# Altium integrated library LPEDT_Parts.IntLib: 69 symbols (part 1 of 3)
Pins are listed as number, name and electrical type; pins without a type are passive.

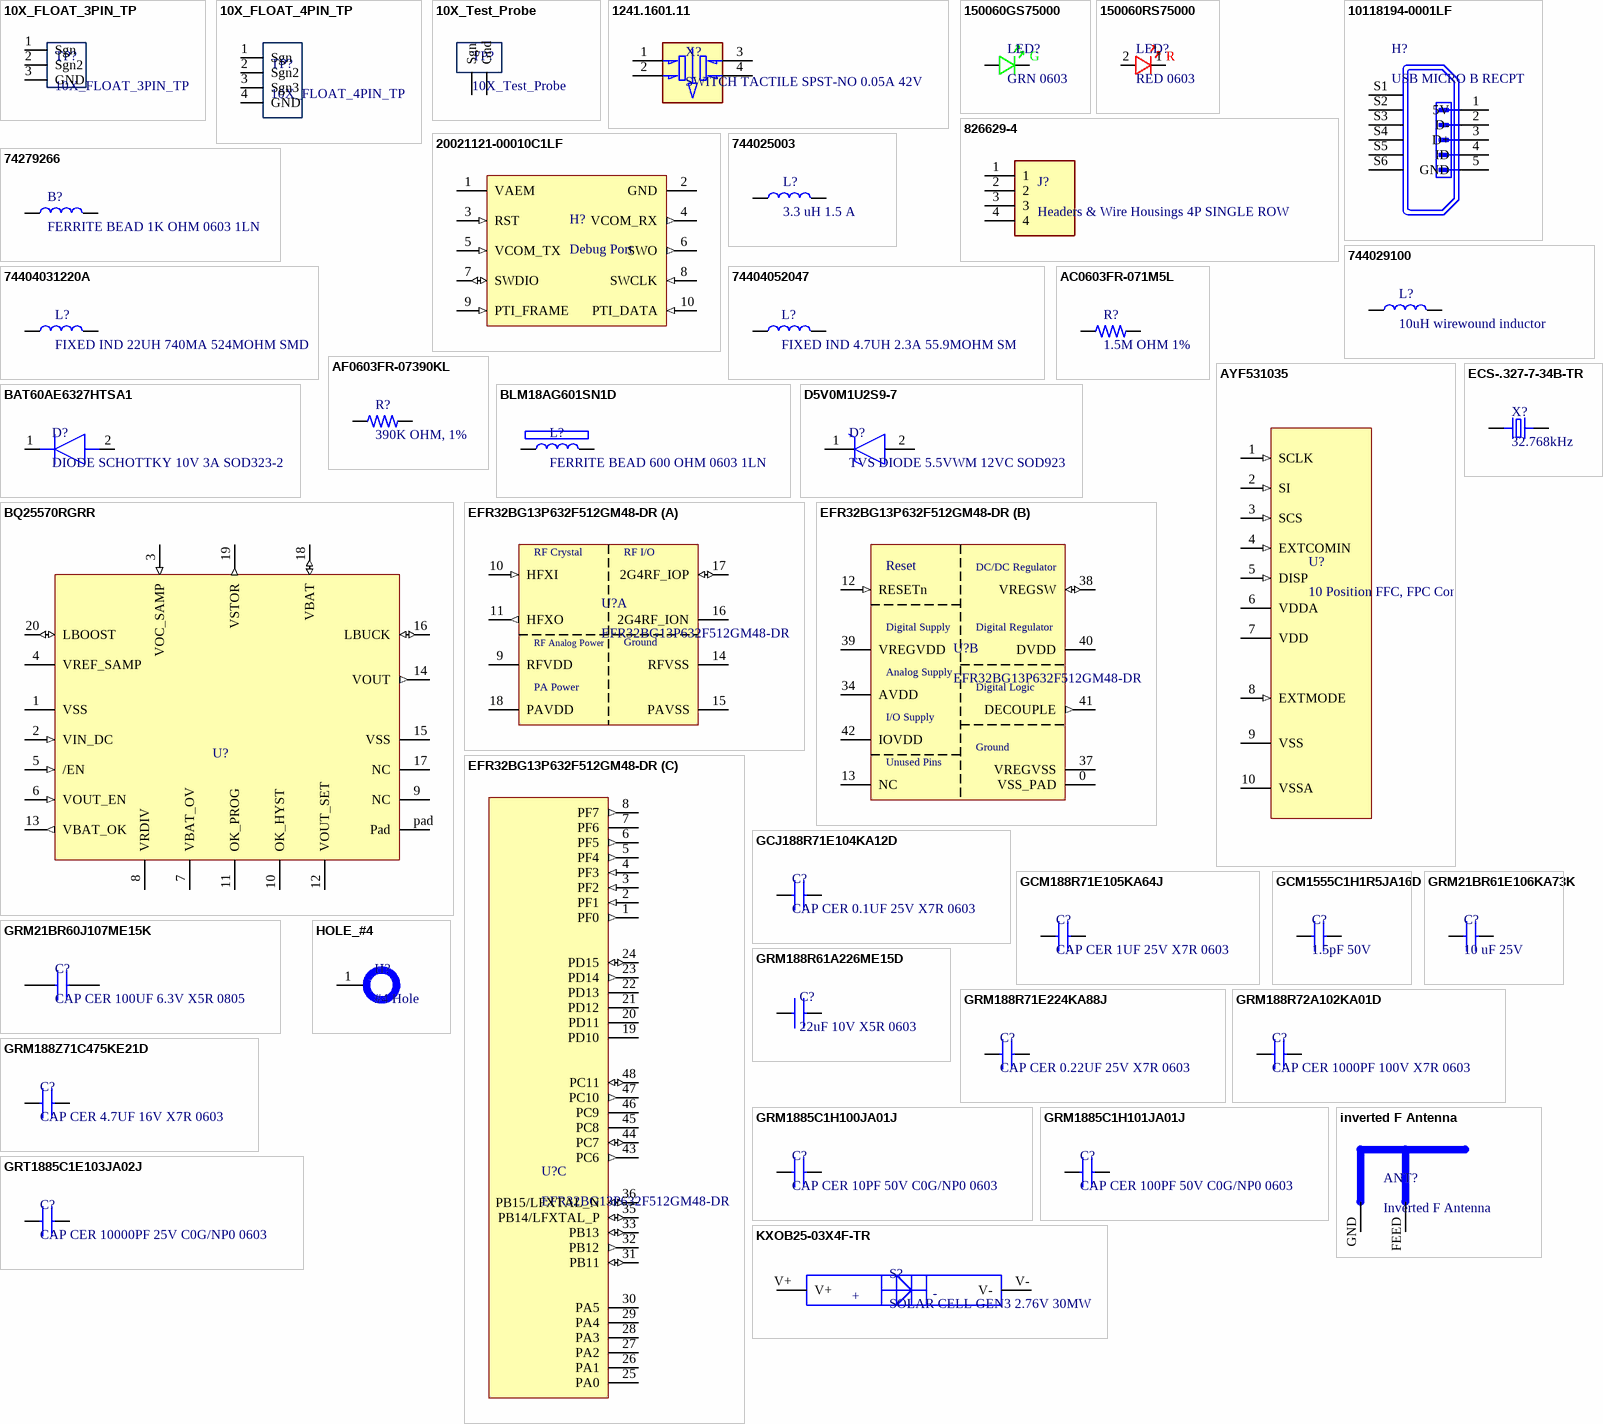
[diagram p0: symbols 10X_FLOAT_3PIN_TP to KXOB25-03X4F-TR]

## 10X_FLOAT_3PIN_TP
designator TP?
footprint TP10x_Floating_3PIN (Small Probs footprint)
pins: 1 Sgn, 2 Sgn2, 3 GND

## 10X_FLOAT_4PIN_TP
designator TP?
footprint TP10x_Floating_4PIN (Small Probs footprint)
pins: 1 Sgn, 2 Sgn2, 3 Sgn3, 4 GND

## 10X_Test_Probe
designator TP?
footprint TP10x_Probe (Small Probs footprint)
pins: 1 Sgn, 2 Gnd

## 1241.1601.11
designator X?, comment SWITCH TACTILE SPST-NO 0.05A 42V
Switch Tactile N.O. SPST Round Button J-Lead 0.05A 30VAC 42VDC 0.12VA >1000000Cycles 1.6N SMD Box; Manufacturer: Schurter; Manufacturer Part Number: 1241.1601.11; Actuator Material: Polyphenylene; Operating Force: 180gf; Max Current Rating: 50mA; Voltage Rating (AC): 30V; Illumination Type: Non-Illuminated,Illuminated; Switch Travel: 0.35mm; Switch Function: Off-Mom; Actuator Type: Standard; Actuator Length: 1.3mm; Ratings: IP40; Supplier 1: Rs; RoHS: Yes; Category: Tactile Switches; Stock 1: 104; Pricing 1: 1=3.18000, 10=3.01000, 25=2.82000 (GBP); Mounting Technology: Surface Mount; Case/Package: SMD/SMT; Contact Material: Gold; Weight: 0.024692oz; Mechanical Life: 1000000Cycles; Min Operating Temperature: -40°C; Max Operating Temperature: 85°C; Package Quantity: 100; Packaging: Bulk; Throw Configuration: SPST; Voltage Rating (DC): 42V; Contact Current Rating: 50mA; Current Rating: 50mA; Max Voltage Rating (DC): 42V; Max Voltage Rating (AC): 30V; Termination: J-Lead; Orientation: Straight; Series: SMS; Length: 11.4mm; Depth: 11.8mm; Reach SVHC Compliant: Yes; RoHS Compliant: Yes; ComponentLink1URL: https://datasheet.ciiva.com/25603/0900766b81148c24-25603899.pdf?src-supplier=Rs; ComponentLink1Description: https://datasheet.ciiva.com/25603/0900766b81148c24-25603899.pdf?src-supplier=Rs
footprint 1241160111
pins: 1 NC1, 2 COM1, 3 NC2, 4 COM2

## 150060GS75000
designator LED?, comment GRN 0603
LED, 0603, GREEN, 430MCD, 520NM; Manufacturer: Wurth Electronics; Manufacturer Part Number: 150060GS75000; Dynamic Catalog: 0603 Rectangle with Flat Top Chip LEDs; 3D Model: SMCW_0603.igs / SMCW_0603.stp / SMCW_0603.wrl; Wavelength - Peak: 515nm; Voltage - Forward (Vf) (Typ): 3.2V; Current - Test: 20mA; Viewing Angle: 140°; Lens Type: Clear; Lens Style/Size: Rectangle with Flat Top, 1.1mm x 0.7mm; Other Names: 732-4971-2; Supplier 1: Digi-Key; Stock 1: 34964; Pricing 1: 1=0.14, 50=0.129, 100=0.11, 500=0.095 (USD); Standard Package: 4,000; Category: Optoelectronics; Family: LED Indication - Discrete; Series: WL-SMCW; Packaging: Tape & Reel (TR); Color: Green; Wavelength - Dominant: 520nm; Millicandela Rating: 430mcd; Package / Case: 0603 (1608 Metric); Size / Dimension: 1.60mm L x 0.80mm W; Height: 0.70mm; Mounting Type: Surface Mount; Online Catalog: 0603 Rectangle with Flat Top Chip LEDs; ComponentLink1URL: https://katalog.we-online.de/led/datasheet/150060GS75000.pdf?src-supplier=Digi-Key; ComponentLink1Description: https://katalog.we-online.de/led/datasheet/150060GS75000.pdf?src-supplier=Digi-Key; ComponentLink2URL: http://www.produktinfo.conrad.com/datenblaetter/750000-774999/759427-da-01-en-CHIPLED_0603_W_KL_GRUEN_150060GS75000.pdf?src-supplier=Conrad; ComponentLink2Description: http://www.produktinfo.conrad.com/datenblaetter/750000-774999/759427-da-01-en-CHIPLED_0603_W_KL_GRUEN_150060GS75000.pdf?src-supplier=Conrad; Supplier Part Number 1: 732-4971-1-ND
footprint LED_0603_GRN_WL-SMCW (SODFL, 2-Leads, Body 0.80x1.80mm, IPC Medium Density)
pins: A, C
text: G

## 150060RS75000
designator LED?, comment RED 0603
LED Low-Power Uni-Color Red 630nm 2V 2-Pin Chip 0603(1608Metric) T/R; Manufacturer: Wurth Electronics; Manufacturer Part Number: 150060RS75000; Lens Color: Colorless; Viewing Angle: 140°; Lens Style: Clear,Flat,Rectangular; Luminous Intensity: 250mcd; Forward Current: 30mA; Wavelength: 625nm; Test Current: 20mA; Lens Transparency: Clear; Lens Size: 0.7mm; Supplier 1: Newark; RoHS: Yes; Category: LEDs; Stock 1: 116696; Pricing 1: 1=0.15000, 5=0.15000, 10=0.14700, 25=0.14500, 50=0.14200, 100=0.12200 (USD); Mounting Technology: Surface Mount; Case/Package: 0603; Color: Red; Case Code (Metric): 1608; Case Code (Imperial): 0603; Min Operating Temperature: -40°C; Max Operating Temperature: 85°C; Package Quantity: 1; Packaging: Cut Tape; Forward Voltage: 2V; Dominant Wavelength: 625nm; Series: WL-SMCW; Length: 1.6mm; Width: 0.8mm; Height: 0.8mm; RoHS Compliant: Yes; ComponentLink1URL: https://datasheet.ciiva.com/29563/150060rs75000-29563040.pdf?src-supplier=Digi-Key; ComponentLink1Description: https://datasheet.ciiva.com/29563/150060rs75000-29563040.pdf?src-supplier=Digi-Key; ComponentLink2URL: https://datasheet.ciiva.com/29279/759428-da-01-en-chipled-0603-w-kl-rot-150060rs75000-29279196.pdf?src-supplier=Conrad; ComponentLink2Description: https://datasheet.ciiva.com/29279/759428-da-01-en-chipled-0603-w-kl-rot-150060rs75000-29279196.pdf?src-supplier=Conrad
footprint LEDC1608X80N
pins: 1, 2
text: R

## 826629-4
designator J?, comment Headers & Wire Housings 4P SINGLE ROW
Conn Unshrouded Header HDR 4 POS 2.54mm Solder ST Thru-Hole Automotive Carton; Manufacturer: TE Connectivity; Manufacturer Part Number: 826629-4; Current Rating: 3A; Number of Poles: 4; Connector Type: Plug,Header,Pin; Gender: Male; Board Standoff: No (Without); High Speed Serial Data Connector: No; PCB Mount Retention: Without; PCB Mounting Orientation: Vertical; Contact Post Length: 0.1259inch; Pin Length: 6.7mm; Plating Thickness: 0.8um; Supplier 1: Arrow Electronics; RoHS: Yes; Category: Headers and Wire Housings; Stock 1: 18169; Pricing 1: 1=0.42230, 10=0.33800, 100=0.30710, 500=0.28770, 1000=0.24440 (USD); Mounting Technology: Straddle Mount; Contact Material: Bronze; Color: Green; Contact Plating: Gold,Tin; Housing Color: Green; Housing Material: PBT; Contact Shape: Square; Contact Finish - Mating: GOLD; Insulation Material: PBT; Insulation Color: Green; Min Operating Temperature: -65°C; Max Operating Temperature: 105°C; Number of Rows: 1; Package Quantity: 1500; Packaging: Carton; Contact Gender: Male; Number of Positions: 4; Termination: Through Hole; Number of Contacts: 4; Orientation: Straight; Contact Protection: No (Without); Gasket: No (Without); High Temperature Housing: No; Keyed: No; Mating Alignment: No (Without); Mating Connector Lock: No (Without); Selectively Loaded: No (Without); Stabilizers: No (Without); Strain Relief: No (Without); Series: AMPMODU MOD II; Contact Type: Male Pin; Fastening Type: Pull; Length: 10.16mm; Lead Pitch: 2.54mm; Pitch: 2.54mm; Contact Mating Length: 6.7mm; Row Spacing: 2.54mm; Depth: 2.5mm; Radiation Hardening: No; Reach SVHC Compliant: Yes; Flammability Rating: UL94 V-0; ELV: Compliant; RoHS Compliant: Yes; ComponentLink1URL: https://datasheet.ciiva.com/11746/0900766b80d7c358-11746112.pdf?src-supplier=Rs; ComponentLink1Description: https://datasheet.ciiva.com/11746/0900766b80d7c358-11746112.pdf?src-supplier=Rs; ComponentLink2URL: https://datasheet.ciiva.com/29369/001094756-da-01-en-stiftleiste-1-reihig-0-0826629-4-29369584.pdf?src-supplier=Conrad; ComponentLink2Description: https://datasheet.ciiva.com/29369/001094756-da-01-en-stiftleiste-1-reihig-0-0826629-4-29369584.pdf?src-supplier=Conrad; ComponentLink3URL: https://datasheet.ciiva.com/14120/eh826629-draw-14120839.pdf?src-supplier=Distrelec; ComponentLink3Description: https://datasheet.ciiva.com/14120/eh826629-draw-14120839.pdf?src-supplier=Distrelec
footprint HDRV4W63P0X254_1X4_1016X250X950P
pins: 1, 2, 3, 4

## 10118194-0001LF
designator H?, comment USB MICRO B RECPT
USB - micro B USB 2.0 Receptacle Connector 5 Position Surface Mount, Right Angle; Through Hole; Manufacturer: Amphenol FCI; Manufacturer Part Number: 10118194-0001LF; Number of Terminals/Pins: 5; Current Rating: 1.8A; Connector Type: USB,Receptacle; Insulation Resistance: 1GR; Number of Ports: 1; Max Voltage Rating (AC): 100V; Pitch: 0.65mm; Supplier 1: Digi-Key; RoHS: Yes; Category: USB Connectors; Stock 1: 87961; Pricing 1: 1=0.48000, 10=0.45100, 25=0.38680, 50=0.32860, 100=0.31580, 250=0.28360, 500=0.27070 (USD); Mount: Surface Mount,Horizontal; Contact Material: Copper Alloy; Contact Plating: Gold; Housing Material: Polymer; Color: Black; Min Operating Temperature: -55°C; Max Operating Temperature: 85°C; Package Quantity: 9600; Packaging: Tape and Reel; Gender: Receptacle; Number of Contacts: 5; Termination: Solder; Orientation: Right Angle; Features: Shielded; Length: 8.05mm; Depth: 5mm; Radiation Hardening: No; Lead Free: Lead Free; Flammability Rating: UL94 V-0; ComponentLink1URL: https://datasheet.ciiva.com/4598/10118194ac-197217-4598807.pdf?src-supplier=Mouser; ComponentLink1Description: https://datasheet.ciiva.com/4598/10118194ac-197217-4598807.pdf?src-supplier=Mouser; ComponentLink2URL: https://datasheet.ciiva.com/26945/getdatasheetpartid-418619-26945695.pdf?src-supplier=Verical; ComponentLink2Description: https://datasheet.ciiva.com/26945/getdatasheetpartid-418619-26945695.pdf?src-supplier=Verical; ComponentLink3URL: https://datasheet.ciiva.com/851/10118194-851110.pdf?src-supplier=Digi-Key; ComponentLink3Description: https://datasheet.ciiva.com/851/10118194-851110.pdf?src-supplier=Digi-Key; ComponentLink4URL: https://datasheet.ciiva.com/851/10118194-851111.pdf?src-supplier=Digi-Key; ComponentLink4Description: https://datasheet.ciiva.com/851/10118194-851111.pdf?src-supplier=Digi-Key; Supplier Part Number 1: 609-4618-6-ND
footprint MICROUSB_AMPHENOL_10118194-0001LF
pins: 1 5V (power), 2 D-, 3 D+, 4 ID, 5 GND, S1, S2, S3, S4, S5, S6

## 20021121-00010C1LF
designator H?, comment Debug Port
CONN HEADER SMD 10POS 1.27MM. Connector Header Surface Mount 10 position 0.050"; Manufacturer: Amphenol ICC / FCI; Manufacturer Part Number: 20021121-00010C1LF; Supplier 1: Digi-Key; RoHS: No; Category: Headers and Wire Housings
footprint Amphenol_20021121_0
pins: 1 VAEM (power) "Target Advanced Energy Monitor Voltage Net", 2 GND "Target Ground", 3 RST (in) "Target Reset (Active Low)", 4 VCOM_RX (out) "Target Pass-through UART/Virtual COM Port Receive", 5 VCOM_TX (in) "Target Pass-through UART/Virtual COM Port Transmit", 6 SWO (out) "Target Serial Wire Output", 7 SWDIO (io) "Target Serial Wire Data Input/Output", 8 SWCLK (in) "Target Serial Wire Clock", 9 PTI_FRAME (in) "Target Packet Trace Interface Frame Signal", 10 PTI_DATA (in) "Target Packet Trace Interface Data Signal"

## 74279266
designator B?, comment FERRITE BEAD 1K OHM 0603 1LN
Ferrite Beads WE-CBF 0603 SMD Bead 100MHz 1000Ohm 200mA; Manufacturer: Wurth Electronics; Manufacturer Part Number: 74279266; Tolerance: 25%; Impedance: 1kR; DC Resistance (DCR): 600mR; Value: 1.8nH; Shielding: Unshielded; Number of Lines: 1; Supplier 1: Newark; RoHS: Yes; Category: Ferrite Beads and Chips; Stock 1: 160000; Pricing 1: 1=0.15800, 4000=0.15800 (USD); Case/Package: SMD/SMT; Case Code (Metric): 1608; Case Code (Imperial): 0603; Core Material: Ferrite; Min Operating Temperature: -55°C; Max Operating Temperature: 125°C; Packaging: Tape and Reel; Series: WE-CBF; Current Rating: 200mA; Max DC Current: 200mA; Termination: SMD/SMT; Test Frequency: 100MHz; Max Current Rating: 200mA; Length: 1.6mm; Width: 0.8mm; Height: 0.8mm; Depth: 0.8mm; Lead Free: Lead Free; RoHS Compliant: Yes; ComponentLink1URL: https://datasheet.ciiva.com/23763/74279266-23763009.pdf?src-supplier=Newark; ComponentLink1Description: https://datasheet.ciiva.com/23763/74279266-23763009.pdf?src-supplier=Newark; ComponentLink2URL: https://datasheet.ciiva.com/12395/74279266-221135-12395453.pdf?src-supplier=Mouser; ComponentLink2Description: https://datasheet.ciiva.com/12395/74279266-221135-12395453.pdf?src-supplier=Mouser; ComponentLink3URL: https://datasheet.ciiva.com/14971/74279266-14971192.pdf?src-supplier=Digi-Key; ComponentLink3Description: https://datasheet.ciiva.com/14971/74279266-14971192.pdf?src-supplier=Digi-Key; ComponentLink4URL: https://datasheet.ciiva.com/14634/0900766b801ef1d0-14634816.pdf?src-supplier=Allied+Electronics; ComponentLink4Description: https://datasheet.ciiva.com/14634/0900766b801ef1d0-14634816.pdf?src-supplier=Allied+Electronics; ComponentLink5URL: https://datasheet.ciiva.com/1466/1705901-1466509.pdf?src-supplier=Element14; ComponentLink5Description: https://datasheet.ciiva.com/1466/1705901-1466509.pdf?src-supplier=Element14; ComponentLink6URL: https://datasheet.ciiva.com/22711/1705901-22711422.pdf?src-supplier=Element14; ComponentLink6Description: https://datasheet.ciiva.com/22711/1705901-22711422.pdf?src-supplier=Element14; ComponentLink7URL: https://datasheet.ciiva.com/48698/001087059-da-01-ml-we-cbf-smd-ferrit-74279266-de-en-48698427.pdf?src-supplier=Conrad; ComponentLink7Description: https://datasheet.ciiva.com/48698/001087059-da-01-ml-we-cbf-smd-ferrit-74279266-de-en-48698427.pdf?src-supplier=Conrad
footprint BEADC1608X100N
pins: 1, 2

## 744025003
designator L?, comment 3.3 uH 1.5 A
Power Choke Shielded Wirewound 3.3uH 20% 100KHz Ferrite 1.5A 101mOhm DCR T/R; Manufacturer: Wurth Electronics; Manufacturer Part Number: 744025003; Saturation Current: 1.8A; Self Resonant Frequency: 100MHz; DC Resistance (DCR): 101mR; ESR: 85MR; Supplier 1: Rs; RoHS: Yes; Category: Fixed Inductors; Stock 1: 60; Pricing 1: 10=1.20900, 20=1.17300, 50=1.10000, 100=0.97900, 250=0.85800 (GBP); Mounting Technology: Surface Mount; Case/Package: 2828; Pins: 2; Core Material: Ferrite; Min Operating Temperature: -40°C; Max Operating Temperature: 125°C; Package Quantity: 1; Packaging: Cut Tape; Series: WE-TPC; Tolerance: 20%; Current Rating: 1.5A; Shielding: Shielded; Inductance Tolerance: 20%; Value: 3.3uH; Resistor Type: Wirewound; Test Frequency: 100kHz; Max DC Current: 1.5A; Termination: SMD/SMT; RMS Current (Irms): 1.5A; Length: 2.8mm; Width: 2.8mm; Height: 2.8mm; Height - Seated (Max): 0.118inch; Depth: 2.8mm; RoHS Compliant: Yes; ComponentLink1URL: https://datasheet.ciiva.com/4954/744025003-88791-4954796.pdf?src-supplier=Mouser; ComponentLink1Description: https://datasheet.ciiva.com/4954/744025003-88791-4954796.pdf?src-supplier=Mouser; ComponentLink2URL: https://datasheet.ciiva.com/1060/744025003-1060566.pdf?src-supplier=Digi-Key; ComponentLink2Description: https://datasheet.ciiva.com/1060/744025003-1060566.pdf?src-supplier=Digi-Key; ComponentLink3URL: https://datasheet.ciiva.com/11803/0900766b80f886b5-11803594.pdf?src-supplier=Rs; ComponentLink3Description: https://datasheet.ciiva.com/11803/0900766b80f886b5-11803594.pdf?src-supplier=Rs; ComponentLink4URL: https://datasheet.ciiva.com/14123/744025003-eng-tds-14123829.pdf?src-supplier=Distrelec; ComponentLink4Description: https://datasheet.ciiva.com/14123/744025003-eng-tds-14123829.pdf?src-supplier=Distrelec; ComponentLink5URL: https://datasheet.ciiva.com/1060/744025003-1060567.pdf?src-supplier=Digi-Key; ComponentLink5Description: https://datasheet.ciiva.com/1060/744025003-1060567.pdf?src-supplier=Digi-Key; ComponentLink6URL: https://datasheet.ciiva.com/1060/744025003-1060568.pdf?src-supplier=Digi-Key; ComponentLink6Description: https://datasheet.ciiva.com/1060/744025003-1060568.pdf?src-supplier=Digi-Key
footprint IND_2828x30 (Precision Wire Wound Inductor, 2-Leads, Body 2.80x2.80mm, IPC Medium Density)
pins: 1, 2

## 744029100
designator L?, comment 10uH wirewound inductor
Power Choke Shielded Wirewound 10uH 30% 100KHz Ferrite 650mA 470mOhm DCR T/R; Manufacturer: Wurth Electronics; Manufacturer Part Number: 744029100; Self Resonant Frequency: 40MHz; Saturation Current: 500mA; Max DC Current: 800mA; DC Resistance (DCR): 470mR; ESR: 300mR; Supplier 1: Newark; RoHS: Yes; Category: Fixed Inductors; Stock 1: 480; Pricing 1: 1=1.69000, 10=1.64000, 25=1.55000, 50=1.45000, 100=1.37000, 250=1.34000, 500=1.29000 (USD); Mounting Technology: Surface Mount; Case/Package: Nonstandard; Pins: 2; Core Material: Ferrite; Weight: 0.001129oz; Min Operating Temperature: -40°C; Max Operating Temperature: 125°C; Packaging: Cut Tape; Package Quantity: 1; Series: WE-TPC; Tolerance: 30%; Shielding: Shielded; Inductance Tolerance: 30%; Value: 10uH; Current Rating: 650mA; Termination: SMD/SMT; Test Frequency: 100kHz; Resistor Type: Wirewound; RMS Current (Irms): 650mA; Length: 2.8mm; Width: 2.8mm; Height: 1.35mm; Height - Seated (Max): 0.059inch; Depth: 2.8mm; Lead Free: Lead Free; RoHS Compliant: Yes; ComponentLink1URL: https://datasheet.ciiva.com/5975/69360-5975061.pdf?src-supplier=Farnell; ComponentLink1Description: https://datasheet.ciiva.com/5975/69360-5975061.pdf?src-supplier=Farnell; ComponentLink2URL: https://datasheet.ciiva.com/4961/744029100-81254-4961409.pdf?src-supplier=Mouser; ComponentLink2Description: https://datasheet.ciiva.com/4961/744029100-81254-4961409.pdf?src-supplier=Mouser; ComponentLink3URL: https://datasheet.ciiva.com/6700/744029100-6700264.pdf?src-supplier=Digi-Key; ComponentLink3Description: https://datasheet.ciiva.com/6700/744029100-6700264.pdf?src-supplier=Digi-Key; ComponentLink4URL: https://datasheet.ciiva.com/11802/0900766b80d7f1cc-11802020.pdf?src-supplier=Rs; ComponentLink4Description: https://datasheet.ciiva.com/11802/0900766b80d7f1cc-11802020.pdf?src-supplier=Rs; ComponentLink5URL: https://datasheet.ciiva.com/7892/69360-7892549.pdf?src-supplier=Element14; ComponentLink5Description: https://datasheet.ciiva.com/7892/69360-7892549.pdf?src-supplier=Element14; ComponentLink6URL: https://datasheet.ciiva.com/22702/69360-22702631.pdf?src-supplier=Element14; ComponentLink6Description: https://datasheet.ciiva.com/22702/69360-22702631.pdf?src-supplier=Element14; ComponentLink7URL: https://datasheet.ciiva.com/6700/744029100-6700266.pdf?src-supplier=Digi-Key; ComponentLink7Description: https://datasheet.ciiva.com/6700/744029100-6700266.pdf?src-supplier=Digi-Key
footprint IND_2828x30 (Precision Wire Wound Inductor, 2-Leads, Body 2.80x2.80mm, IPC Medium Density)
pins: 1, 2

## 74404031220A
designator L?, comment FIXED IND 22UH 740MA 524MOHM SMD
WE-LQS Series; Shielded Wire-wound SMD Inductor 22 µH Wire-Wound 740mA Idc; Manufacturer: Wurth Electronics; Manufacturer Part Number: 74404031220A; Saturation Current: 430mA; DC Resistance (DCR): 524mR; Self Resonant Frequency: 36MHz; Test Frequency: 100kHz; Tolerance: 20%; Supplier 1: Mouser; RoHS: Yes; Category: Fixed Inductors; Stock 1: 1300; Pricing 1: 1=1.16000, 10=1.16000, 50=0.96200, 100=0.89100, 1000=0.79700, 10000=0.64500 (USD); Mounting Technology: Surface Mount; Case/Package: Nonstandard; Min Operating Temperature: -40°C; Max Operating Temperature: 125°C; Packaging: Cut Tape; Resistor Type: Wirewound; Value: 22uH; Current Rating: 740mA; Shielding: Shielded; RMS Current (Irms): 740mA; Inductance Tolerance: 20%; Series: WE-LQS; Length: 0.118inch; Width: 0.118inch; Height - Seated (Max): 0.047inch; RoHS Compliant: Yes; ComponentLink1URL: http://www.farnell.com/datasheets/2039985.pdf?src-supplier=Element14; ComponentLink1Description: http://www.farnell.com/datasheets/2039985.pdf?src-supplier=Element14; ComponentLink2URL: https://katalog.we-online.de/pbs/datasheet/74404031220A.pdf?src-supplier=Digi-Key; ComponentLink2Description: https://katalog.we-online.de/pbs/datasheet/74404031220A.pdf?src-supplier=Digi-Key
footprint IND_3030x12 (Precision Wire Wound Inductor, 2-Leads, Body 3.0x3.0mm, IPC Medium Density)
pins: 1, 2

## 74404052047
designator L?, comment FIXED IND 4.7UH 2.3A 55.9MOHM SM
Fixed Ind 4.7UH 2.3A 55.9 Mohm; Manufacturer: Wurth Electronics; Manufacturer Part Number: 74404052047; Saturation Current: 2.7A; Shielding: Shielded; DC Resistance (DCR): 55.9mR; Self Resonant Frequency: 57MHz; Test Frequency: 100kHz; Tolerance: 20%; Supplier 1: Mouser; RoHS: Yes; Category: Fixed Inductors; Stock 1: 4420; Pricing 1: 1=1.23000, 10=1.23000, 50=1.21000, 100=1.21000, 250=1.13000, 500=1.02000, 1000=0.83500, 2500=0.74000, 10000=0.74000 (USD); Mounting Technology: Surface Mount; Case/Package: Nonstandard; Min Operating Temperature: -40°C; Max Operating Temperature: 125°C; Packaging: Tape and Reel; Resistor Type: Wirewound; Value: 4.7uH; Current Rating: 2.3A; Length: 0.197inch; Width: 0.197inch; Height - Seated (Max): 0.079inch; RoHS Compliant: Yes; ComponentLink1URL: https://katalog.we-online.de/pbs/datasheet/74404052047.pdf?src-supplier=Digi-Key; ComponentLink1Description: https://katalog.we-online.de/pbs/datasheet/74404052047.pdf?src-supplier=Digi-Key
footprint IND_5050x20 (Precision Wire Wound Inductor, 2-Leads, Body 5.0x5.0mm, IPC Medium Density)
pins: 1, 2

## AC0603FR-071M5L
designator R?, comment 1.5M OHM 1%
Res Thick Film 0603 1.5M Ohm 1% 0.1W(1/10W) ±100ppm/C Pad SMD Automotive T/R; Manufacturer: Yageo; Manufacturer Part Number: AC0603FR-071M5L; Power Rating: 100mW; Value: 1.5MR; Voltage Rating: 50V; Temperature Coefficient: 100ppm/°C; Supplier 1: Future Electronics; RoHS: Yes; Category: Chip SMD Resistors; Stock 1: 125000; Pricing 1: 5000=0.00200, 25000=0.00190, 125000=0.00180, 500000=0.00170, 1250000=0.00160 (USD); Case/Package: 0603; Case Code (Imperial): 0603; Case Code (Metric): 1608; Min Operating Temperature: -55°C; Max Operating Temperature: 155°C; Packaging: Tape and Reel; Tolerance: 1%; Resistor Type: Thick Film; Number of Terminations: 2; Termination: SMD/SMT; Max Power Dissipation: 100mW; Features: Moisture Resistant,Automotive AEC-Q200; Series: AC; Length: 0.063inch; Width: 0.031inch; Height: 0.022inch; RoHS Compliant: Yes; ComponentLink1URL: http://www.mouser.com/ds/2/447/yageodocoutput-1111992.pdf?src-supplier=Mouser; ComponentLink1Description: http://www.mouser.com/ds/2/447/yageodocoutput-1111992.pdf?src-supplier=Mouser; ComponentLink2URL: http://www.yageo.com/NewPortal/yageodocoutput?fileName=/pdf/R-Chip/PYu-AC_51_RoHS_L_6.pdf&src-supplier=Digi-Key; ComponentLink2Description: http://www.yageo.com/NewPortal/yageodocoutput?fileName=/pdf/R-Chip/PYu-AC_51_RoHS_L_6.pdf&src-supplier=Digi-Key
footprint RES_0603_1608X06 (Chip Resistor, 2-Leads, Body 1.60x0.80mm, IPC Medium Density)
pins: 1, 2

## AF0603FR-07390KL
designator R?, comment 390K OHM, 1%
Anti-Sulfurated Chip Resistor Thick Film 0603 390kOhm 1% Paper T/R; Manufacturer: Yageo; Manufacturer Part Number: AF0603FR-07390KL; Value: 390kR; Power Rating: 100mW; Voltage Rating: 50V; Temperature Coefficient: 100ppm/°C; Supplier 1: Mouser; RoHS: Yes; Category: Chip SMD Resistors; Stock 1: 12928; Pricing 1: 1=0.10000, 10=0.06100, 50=0.06100, 100=0.02500, 1000=0.01200, 10000=0.00800 (USD); Case/Package: 0603; Case Code (Metric): 1608; Case Code (Imperial): 0603; Min Operating Temperature: -55°C; Max Operating Temperature: 155°C; Package Quantity: 1; Tolerance: 1%; Packaging: Tape and Reel; Resistor Type: Thick Film; Number of Terminations: 2; Termination: SMD/SMT; Max Power Dissipation: 100mW; Features: Moisture Resistant,Anti-Sulfur; Series: AF; Length: 0.063inch; Width: 0.032inch; Height: 0.022inch; Height - Seated (Max): 0.022inch; RoHS Compliant: Yes; ComponentLink1URL: https://datasheet.ciiva.com/5558/pyu-af-51-rohs-l-0-5558267.pdf?src-supplier=Mouser; ComponentLink1Description: https://datasheet.ciiva.com/5558/pyu-af-51-rohs-l-0-5558267.pdf?src-supplier=Mouser
footprint RES_0603_1608X06 (Chip Resistor, 2-Leads, Body 1.60x0.80mm, IPC Medium Density)
pins: 1, 2

## AYF531035
designator U?, comment 10 Position FFC, FPC Connector Contacts, Top and Bottom 0.020" (0.50mm) Surface Mount, Right Angle
CONN FFC FPC 10POS 0.50MM R/A; Manufacturer: Panasonic; Manufacturer Part Number: AYF531035; Actuator Material: Polymer,Liquid Crystal Polymer; Contact Resistance: 80mR; Max Voltage Rating (DC): 5.05kV; Current Rating: 500mA; Voltage Rating: 50V; Number of Positions: 10; Contact Location: Dual; Pitch: 0.5mm; Supplier 1: Avnet; RoHS: Yes; Category: FFC / FPC; Stock 1: 5000; Pricing 1: 5000=0.86580, 5100=0.85100, 11000=0.83620, 25000=0.82140, 50000=0.80660 (USD); Mounting Technology: Surface Mount; Contact Material: Copper Alloy; Contact Plating: Gold; Housing Material: Polymer; Min Operating Temperature: -55°C; Max Operating Temperature: 85°C; Number of Rows: 1; Package Quantity: 1000; Packaging: Tape and Reel; Termination: Solder; Number of Contacts: 10; Orientation: Right Angle; Series: Y5B; Radiation Hardening: No; Lead Free: Lead Free; Flammability Rating: UL94 V-0; RoHS Compliant: Yes; ComponentLink1URL: http://www.mouser.com/ds/2/315/Panasonic_Y5B_Y5BW%20Series-1076217.pdf?src-supplier=Mouser; ComponentLink1Description: http://www.mouser.com/ds/2/315/Panasonic_Y5B_Y5BW%20Series-1076217.pdf?src-supplier=Mouser; ComponentLink2URL: http://www.onlinecomponents.com/datasheet/ayf531035.aspx?p=41877477&src-supplier=Onlinecomponents.com; ComponentLink2Description: http://www.onlinecomponents.com/datasheet/ayf531035.aspx?p=41877477&src-supplier=Onlinecomponents.com; ComponentLink3URL: http://www.panasonic-electric-works.com/catalogues/downloads/connectors/ds_65315_en_y5b_y5bw.pdf?src-supplier=Avnet; ComponentLink3Description: http://www.panasonic-electric-works.com/catalogues/downloads/connectors/ds_65315_en_y5b_y5bw.pdf?src-supplier=Avnet; ComponentLink4URL: https://www3.panasonic.biz/ac/e_download/control/connector/fpc-ffc/catalog/con_eng_y5bw.pdf?src-supplier=Digi-Key; ComponentLink4Description: https://www3.panasonic.biz/ac/e_download/control/connector/fpc-ffc/catalog/con_eng_y5bw.pdf?src-supplier=Digi-Key
footprint FFC_10POS_0.5MM_PITCH (CONN FFC FPC 10POS 0.50MM R/A)
pins: 1 SCLK (in) "Serial clock signal", 2 SI (in) "Serial input signal", 3 SCS (in) "Chip select signal", 4 EXTCOMIN (in) "COM inversion polarity input pin", 5 DISP (in) "Display ON/OFF switching signal", 6 VDDA (power) "Power source for Analog", 7 VDD (power) "Power source for Logic", 8 EXTMODE (in) "COM inversion mode switch terminal", 9 VSS "Logic ground", 10 VSSA "Analog ground"

## BAT60AE6327HTSA1
designator D?, comment DIODE SCHOTTKY 10V 3A SOD323-2
Manufacturer: Infineon; Manufacturer Part Number: BAT60AE6327HTSA1; Element Configuration: Single; Forward Voltage: 370mV; Peak Non-Repetitive Surge Current: 5A; Polarity: Standard; Supplier 1: Newark; RoHS: Yes; Category: Rectifier Diodes; Stock 1: 57000; Pricing 1: 3000=0.08300, 6000=0.08100, 12000=0.07900, 18000=0.07600, 24000=0.07500 (USD); Mounting Technology: Surface Mount; Case/Package: SOD-323-2; Pins: 2; Contact Plating: Tin; Min Operating Temperature: -55°C; Max Operating Temperature: 85°C; Packaging: Tape and Reel; Forward Current: 3A; Max Repetitive Reverse Voltage (Vrrm): 10V; Average Rectified Current: 3A; Max Reverse Voltage (DC): 10V; Series: Automotive, AEC-Q101; Voltage Rating (DC): 10V; Current Rating: 3A; Output Current: 3A; Radiation Hardening: No; Reach SVHC Compliant: Yes; Lead Free: Lead Free; Halogen Free: Not Halogen Free; RoHS Compliant: Yes; ComponentLink1URL: https://datasheet.ciiva.com/8300/infineon-bat60aseries-ds-v01-01-en-8300325.pdf?src-supplier=Avnet; ComponentLink1Description: https://datasheet.ciiva.com/8300/infineon-bat60aseries-ds-v01-01-en-8300325.pdf?src-supplier=Avnet; ComponentLink2URL: https://datasheet.ciiva.com/26948/getdatasheetpartid-743048-26948826.pdf?src-supplier=Verical; ComponentLink2Description: https://datasheet.ciiva.com/26948/getdatasheetpartid-743048-26948826.pdf?src-supplier=Verical
footprint SOD2513X110N
pins: 1 K, 2 A

## BLM18AG601SN1D
designator L?, comment FERRITE BEAD 600 OHM 0603 1LN
0603 600Ω ±25% DCR=0.38Ω 500mA; Manufacturer: Murata; Manufacturer Part Number: BLM18AG601SN1D; Material: Steel,Ferrite; Frequency: 100MHz; Impedance: 600R; Number of Lines: 1; DC Resistance (DCR): 380mR; Shielding: Unshielded; Supplier 1: Arrow Electronics; RoHS: Yes; Category: Ferrite Beads and Chips; Stock 1: 488000; Pricing 1: 4000=0.02150, 8000=0.01830, 12000=0.01680, 28000=0.01620, 100000=0.01600 (USD); Case/Package: 0603; Pins: 2; Core Material: Ferrite; Case Code (Metric): 1608; Case Code (Imperial): 0603; Weight: 7.1E-05oz; Min Operating Temperature: -55°C; Max Operating Temperature: 125°C; Package Quantity: 1; Packaging: Tape and Reel; Series: BLM18A; Tolerance: 25%; Max Current Rating: 500mA; Current Rating: 500mA; Termination: SMD/SMT; Max DC Current: 500mA; Test Frequency: 100MHz; DC Current: 500mA; Number of Circuits: 1; DC Resistance-Max: 380mR; Length: 1.6mm; Width: 0.8mm; Height: 0.8mm; Depth: 0.8mm; Radiation Hardening: No; RoHS Compliant: Yes; Lead Free: Lead Free; Reach SVHC Compliant: Yes; Military Standard: Not; ComponentLink1URL: https://datasheet.ciiva.com/19460/1844766-19460213.pdf?src-supplier=Jameco; ComponentLink1Description: https://datasheet.ciiva.com/19460/1844766-19460213.pdf?src-supplier=Jameco; ComponentLink2URL: https://datasheet.ciiva.com/41449/001172228-da-01-en-drossel-0603-600r-1-6x0-8mm-4000st-41449517.pdf?src-supplier=Conrad; ComponentLink2Description: https://datasheet.ciiva.com/41449/001172228-da-01-en-drossel-0603-600r-1-6x0-8mm-4000st-41449517.pdf?src-supplier=Conrad; ComponentLink3URL: https://datasheet.ciiva.com/29347/442309-da-01-en-chip-drossel-0603-600r-500ma-1-6x0-8mm-29347900.pdf?src-supplier=Conrad; ComponentLink3Description: https://datasheet.ciiva.com/29347/442309-da-01-en-chip-drossel-0603-600r-500ma-1-6x0-8mm-29347900.pdf?src-supplier=Conrad; ComponentLink4URL: https://datasheet.ciiva.com/1466/1756147-1466934.pdf?src-supplier=Element14; ComponentLink4Description: https://datasheet.ciiva.com/1466/1756147-1466934.pdf?src-supplier=Element14; ComponentLink5URL: https://datasheet.ciiva.com/1466/1756147-1466933.pdf?src-supplier=Element14; ComponentLink5Description: https://datasheet.ciiva.com/1466/1756147-1466933.pdf?src-supplier=Element14; ComponentLink6URL: https://datasheet.ciiva.com/1012/l0110s0100blm18a-1012018.pdf?src-supplier=Digi-Key; ComponentLink6Description: https://datasheet.ciiva.com/1012/l0110s0100blm18a-1012018.pdf?src-supplier=Digi-Key; ComponentLink7URL: https://datasheet.ciiva.com/1012/l0110s0100blm18a-1012017.pdf?src-supplier=Digi-Key; ComponentLink7Description: https://datasheet.ciiva.com/1012/l0110s0100blm18a-1012017.pdf?src-supplier=Digi-Key; ComponentLink8URL: https://datasheet.ciiva.com/1012/l0110s0100blm18a-1012019.pdf?src-supplier=Digi-Key; ComponentLink8Description: https://datasheet.ciiva.com/1012/l0110s0100blm18a-1012019.pdf?src-supplier=Digi-Key; ComponentLink9URL: https://datasheet.ciiva.com/16210/l0110s0100blm18a-16210006.pdf?src-supplier=Future+Electronics; ComponentLink9Description: https://datasheet.ciiva.com/16210/l0110s0100blm18a-16210006.pdf?src-supplier=Future+Electronics; ComponentLink10URL: https://datasheet.ciiva.com/3081/l0110s0100blm18a-3081613.pdf?src-supplier=Avnet; ComponentLink10Description: https://datasheet.ciiva.com/3081/l0110s0100blm18a-3081613.pdf?src-supplier=Avnet
footprint Chip2Pin_1.6x0.8x0.95_ferrite (600 Ohms @ 100 MHz 1 Ferrite Bead 0603 (1608 Metric) 500mA 380mOhm)
pins: 1, 2

## BQ25570RGRR
designator U?, comment IC ENERGY HARV CTRLR BATT 20VQFN  (value not drawn)
Switching Battery Charger Li-Ion/Li-Pol/Supercapacitor 110mA 2.2V to 5.5V 20-Pin VQFN EP T/R; Manufacturer: Texas Instruments; Manufacturer Part Number: BQ25570RGRR; Operating Supply Voltage: 4V; Output Current: 100mA; Operating Supply Current: 488nA; Switching Frequency: 1MHz; Supplier 1: Arrow Electronics; RoHS: Yes; Category: Battery Management; Stock 1: 2940; Pricing 1: 1=7.05760, 10=6.56190, 25=6.32270, 100=5.81790, 250=5.63390, 500=5.29690, 1000=5.06460 (USD); Mounting Technology: Surface Mount; Case/Package: VQFN; Pins: 20; Contact Plating: Gold; Min Operating Temperature: -40°C; Max Operating Temperature: 125°C; Packaging: Tape and Reel; Package Quantity: 3000; RoHS Compliant: Yes; Lead Free: Lead Free; ComponentLink1URL: https://datasheet.ciiva.com/29590/bq25570-29590060.pdf?src-supplier=Digi-Key; ComponentLink1Description: https://datasheet.ciiva.com/29590/bq25570-29590060.pdf?src-supplier=Digi-Key
footprint QFN_20_3.5X3.5 (IC ENERGY HARV CTRLR BATT 20VQFN)
pins: 1 VSS "Power ground for the boost charger.", 2 VIN_DC (in) "DC voltage input from energy harvesting source. Connect at least a 4.7 µF capacitor as close as possible between this pin and pin 1.", 3 VOC_SAMP (in) "Sampling pin for MPPT network. Connect to VSTOR to sample at 80% of input source open circuit voltage.", 4 VREF_SAMP "Connect a 0.01-µF low-leakage capacitor from this pin to GND to store the voltage to which VIN_DC will be regulated. This voltage is provided by the MPPT sample circuit.", 5 /EN (in) "Active low digital programming input for enabling/disabling the IC. Connect to GND to enable the IC.", 6 VOUT_EN (in) "Active high digital programming input for enabling/disabling the buck converter. Connect to VSTOR to enable the buck converter.", 7 VBAT_OV "Connect to the mid-point of external resistor divider between VRDIV and GND for setting the VBAT overvoltage threshold.", 8 VRDIV "Connect high side of resistor divider networks to this biasing voltage.", 9 NC "Connect to ground using the IC's PowerPAD.", 10 OK_HYST "Connect to the mid-point of external resistor divider between VRDIV and GND for setting the VBAT_OK hystersis threshold. If not used, connect this pin to GND.", 11 OK_PROG "Connect to the mid-point of external resistor divider between VRDIV and GND for setting the VBAT_OK hystersis threshold. If not used, connect this pin to GND.", 12 VOUT_SET "Connect to the mid-point of external resistor divider between VRDIV and GND for setting the VOUT regulation set point.", 13 VBAT_OK (out) "Digital output for battery good indicator. Internally referenced to the VSTOR voltage. Leave floating if not used.", 14 VOUT (out) "Buck converter output. Connect at least 22 µF output capacitor between this pin and pin 15 (VSS).", 15 VSS "Power ground for the buck converter and analog/signal ground for the resistor dividers and VREF_SAMP capacitor.", 16 LBUCK (io) "Inductor connection for the buck converter switching node. Connect at least a 4.7 μH inductor between this pin and pin 14 (VOUT).", 17 NC "Connect to ground using the IC's PowerPAD.", 18 VBAT (io) "Connect a rechargeable storage element with at least 100uF of equivalent capacitance between this pin and either VSS pin.", 19 VSTOR (out) "Connection for the output of the boost charger.", 20 LBOOST (io) "Inductor connection for the boost charger switching node. Connect a 22 μH inductor between this pin and pin 2 (VIN_DC).", pad Pad

## D5V0M1U2S9-7
designator D?, comment TVS DIODE 5.5VWM 12VC SOD923
ESD Suppressors / TVS Diodes Bi-Directional 35pF Dataline Protection; Manufacturer Part Number: D5V0M1U2S9-7; Number of Unidirectional Channels: 1; Reverse Standoff Voltage: 5.5V; Min Breakdown Voltage: 6.2V; Clamping Voltage: 12V; Peak Pulse Power: 108W; Power Line Protection: No; Peak Pulse Current: 9A; Supplier 1: Arrow Electronics; Manufacturer: Diodes; RoHS: Yes; Category: TVS Diodes; Stock 1: 75890; Pricing 1: 1=0.24290, 10=0.18040, 100=0.10220, 500=0.06670, 1000=0.04280, 2000=0.03710, 5000=0.03470, 10000=0.02760, 30000=0.02740, 50000=0.02710, 100000=0.02240 (USD); Mounting Technology: Surface Mount; Min Operating Temperature: -65°C; Max Operating Temperature: 150°C; Packaging: Tape and Reel; Resistor Type: Zener; RoHS Compliant: Yes; ComponentLink1URL: http://www.mouser.com/ds/2/115/D5V0M1U2S9-756882.pdf?src-supplier=Mouser; ComponentLink1Description: http://www.mouser.com/ds/2/115/D5V0M1U2S9-756882.pdf?src-supplier=Mouser; ComponentLink2URL: https://www.diodes.com/assets/Datasheets/D5V0M1U2S9.pdf?src-supplier=Digi-Key; ComponentLink2Description: https://www.diodes.com/assets/Datasheets/D5V0M1U2S9.pdf?src-supplier=Digi-Key
footprint SODFL1006X40N
pins: 1 K, 2 A

## ECS-.327-7-34B-TR
designator X?, comment 32.768kHz
32.768kHz Â±20ppm Crystal 7pF 70 kOhms 2-SMD, No Lead; MP: ECS-.327-7-34B-TR; MF: ECS Inc.; Availability: Unavailable; Price: None; Value: *; SnapEDA_Link: https://www.snapeda.com/parts/ECS-.327-7-34B-TR/ECS%20Inc./view-part/55054/?ref=snap; Package: SMD-2 ECS International
footprint XTAL_ECS-.327-7-34B-TR
pins: 1, 2

## EFR32BG13P632F512GM48-DR
designator U?
Blue Gecko BLE Soc QFN48 2.4 G 10 dB BLE/Proprietary 512 kB 64 kB(RAM) 31GPIO; Manufacturer: Silicon Labs; Supplier 1: Digi-Key; Manufacturer Part Number: EFR32BG13P632F512GM48-DR; Category: RF Receivers, Transceivers; Stock 1: 17440; Pricing 1: 1=7.81000, 10=7.16300, 25=6.51200, 100=5.86080, 250=5.37240, 500=4.88400, 1000=4.44000 (USD); ComponentLink1URL: https://datasheet.octopart.com/EFR32BG13P632F512GM48-DR-Silicon-Labs-datasheet-150822224.pdf?src-supplier=Silicon+Labs; ComponentLink1Description: https://datasheet.octopart.com/EFR32BG13P632F512GM48-DR-Silicon-Labs-datasheet-150822224.pdf?src-supplier=Silicon+Labs; ComponentLink2URL: https://datasheet.octopart.com/EFR32BG13P632F512GM48-DR-Silicon-Labs-datasheet-142345357.pdf?src-supplier=Silicon+Labs+SCT; ComponentLink2Description: https://datasheet.octopart.com/EFR32BG13P632F512GM48-DR-Silicon-Labs-datasheet-142345357.pdf?src-supplier=Silicon+Labs+SCT; ComponentLink3URL: https://datasheet.octopart.com/EFR32BG13P632F512GM48-DR-Silicon-Labs-datasheet-150822225.pdf?src-supplier=Farnell; ComponentLink3Description: https://datasheet.octopart.com/EFR32BG13P632F512GM48-DR-Silicon-Labs-datasheet-150822225.pdf?src-supplier=Farnell; Supplier Part Number 1: 336-EFR32BG13P632F512GM48-DRCT-ND
footprint QFN_48_7X7 (BLUE GECKO QFN48 2.4 GHZ 512KB 6)
part A pins: 9 RFVDD (power) "Radio Power Supply", 10 HFXI (in) "High Frequency Crystal input pin.", 11 HFXO (out) "High Frequency Crystal output pin.", 14 RFVSS "Radio Ground", 15 PAVSS "Power Amplifier (PA) voltage regulator VSS", 16 2G4RF_ION "2.4 GHz Differential RF input/output, negative path.This pin should be externally grounded.", 17 2G4RF_IOP (io) "2.4 GHz Differential RF input/output, positive path.", 18 PAVDD (power) "Power Amplifier (PA) voltage regulator VDD input"
part B pins: 0 VSS_PAD "Ground", 12 RESETn (in) "Reset input, active low. This pin is internally pulled up to AVDD. To apply an external reset source to this pin, it is required to only drive this pin low during reset, and let the internal pull-up ensure that reset is released.", 13 NC "No Connect", 34 AVDD (power) "Analog power supply", 37 VREGVSS "Voltage regulator VSS", 38 VREGSW (io) "DCDC regulator swithching node", 39 VREGVDD (power) "Voltage regulator VDD input", 40 DVDD (power) "Digital power supply", 41 DECOUPLE (out) "Decouple output for on-chip voltage regulator. An external decoupling capacitor is required at this pin. This pin should not be used to power any external circuits.", 42 IOVDD (power) "Digital IO power supply"
part C pins: 1 PF0 (out) "GPIO (5V)", 2 PF1 (in) "GPIO (5V)", 3 PF2 (in) "GPIO (5V)", 4 PF3 (in) "GPIO (5V)", 5 PF4 (out) "GPIO (5V)", 6 PF5 (out) "GPIO (5V)", 7 PF6 "GPIO (5V)", 8 PF7 (out) "GPIO (5V)", 19 PD10 "GPIO (5V)", 20 PD11 "GPIO (5V)", 21 PD12 "GPIO (5V)", 22 PD13 "GPIO", 23 PD14 (out) "GPIO", 24 PD15 (io) "GPIO", 25 PA0 "GPIO", 26 PA1 "GPIO", 27 PA2 "GPIO", 28 PA3 "GPIO", 29 PA4 "GPIO", 30 PA5 "GPIO (5V)", 31 PB11 (io) "GPIO", 32 PB12 (out) "GPIO", 33 PB13 (io) "GPIO", 35 PB14/LFXTAL_P (io) "GPIO", 36 PB15/LFXTAL_N (io) "GPIO", 43 PC6 (out) "GPIO (5V)", 44 PC7 (io) "GPIO (5V)", 45 PC8 "GPIO (5V)", 46 PC9 "GPIO (5V)", 47 PC10 (out) "GPIO (5V)", 48 PC11 (io) "GPIO (5V)"
part A text: RF Crystal; RF I/O; RF Analog Power; Ground; PA Power
part B text: Reset; DC/DC Regulator; Digital Supply; Digital Regulator; Analog Supply; Digital Logic; I/O Supply; Ground; Unused Pins

## GCJ188R71E104KA12D
designator C?, comment CAP CER 0.1UF 25V X7R 0603
Cap Ceramic 0.1uF 25V X7R 10% Pad SMD 0603 Soft Termination 125C Automotive T/R; Manufacturer: Murata; Manufacturer Part Number: GCJ188R71E104KA12D; Value: 100nF; Supplier 1: Arrow Electronics; RoHS: Yes; Category: Ceramic Capacitors; Stock 1: 11360; Pricing 1: 1=0.14710, 10=0.11710, 25=0.11140, 100=0.11030, 250=0.10920, 500=0.10810, 1000=0.10700, 3000=0.10600, 6000=0.10490 (USD); Mounting Technology: Surface Mount; Case/Package: 0603; Case Code (Imperial): 0603; Case Code (Metric): 1608; Min Operating Temperature: -55°C; Max Operating Temperature: 125°C; Features: Soft Termination; Packaging: Tape and Reel; Tolerance: 10%; Voltage Rating: 25V; Ratings: AEC-Q200; RoHS Compliant: Yes; ComponentLink1URL: http://search.murata.co.jp/Ceramy/image/img/A01X/G101/ENG/GCJ188R71E104KA12-01.pdf?src-supplier=Digi-Key; ComponentLink1Description: http://search.murata.co.jp/Ceramy/image/img/A01X/G101/ENG/GCJ188R71E104KA12-01.pdf?src-supplier=Digi-Key
footprint Chip2Pin_1.6x0.8x0.9_CAP (10 pF ±5% 50V Ceramic Capacitor C0G, NP0 0603 (1608 Metric))
pins: 1, 2

## GCM188R71E105KA64J
designator C?, comment CAP CER 1UF 25V X7R 0603
Cap Ceramic 1uF 25V X7R 10% Pad SMD 0603 125C Automotive T/R; Manufacturer: Murata; Manufacturer Part Number: GCM188R71E105KA64J; Supplier 1: Arrow Electronics; RoHS: Yes; Category: Ceramic Capacitors; Stock 1: 30000; Pricing 1: 10000=0.03520, 20000=0.03290, 30000=0.03110, 50000=0.03040, 100000=0.02490, 250000=0.02380 (USD); Mounting Technology: Surface Mount; Case/Package: 0603; Case Code (Imperial): 0603; Case Code (Metric): 1608; Weight: 0.000222oz; Min Operating Temperature: -55°C; Max Operating Temperature: 125°C; Value: 1uF; Tolerance: 10%; Dielectric: X7R; Packaging: Tape and Reel; Voltage Rating: 25V; Termination: SMD/SMT; Voltage Rating (DC): 25V; Package Quantity: 10000; Length: 1.6mm; Width: 0.8mm; Height: 0.8mm; Thickness: 0.035inch; Depth: 0.8mm; Ratings: AEC-Q200; Radiation Hardening: No; RoHS Compliant: Yes; ComponentLink1URL: http://www.mouser.com/ds/2/281/c03e-806517.pdf?src-supplier=Mouser; ComponentLink1Description: http://www.mouser.com/ds/2/281/c03e-806517.pdf?src-supplier=Mouser; ComponentLink2URL: http://www.murata.com/~/media/webrenewal/support/library/catalog/products/capacitor/mlcc/c03e.ashx?src-supplier=Digi-Key; ComponentLink2Description: http://www.murata.com/~/media/webrenewal/support/library/catalog/products/capacitor/mlcc/c03e.ashx?src-supplier=Digi-Key
footprint Chip2Pin_1.6x0.8x0.9_CAP (10 pF ±5% 50V Ceramic Capacitor C0G, NP0 0603 (1608 Metric))
pins: 1, 2

## GCM1555C1H1R5JA16D
designator C?, comment 1.5pF 50V
Cap Ceramic 1.5pF 50V C0G 5% Pad SMD 0402 125C Automotive T/R; Manufacturer: Murata; Manufacturer Part Number: GCM1555C1H1R5JA16D; Supplier 1: Digi-Key; RoHS: Yes; Category: Ceramic Capacitors; Stock 1: 77943; Pricing 1: 1=0.10000, 10=0.04700, 50=0.02580, 100=0.02100, 500=0.01502, 1000=0.01180, 2500=0.01072, 5000=0.00987 (USD); Mount: Surface Mount; Case/Package: 0402; Case Code (Imperial): 0402; Case Code (Metric): 1005; Min Operating Temperature: -55°C; Max Operating Temperature: 125°C; Packaging: Cut Tape; Capacitance: 1.5pF; Tolerance: 5%; Voltage Rating: 50V; Ratings: AEC-Q200; ComponentLink1URL: http://search.murata.co.jp/Ceramy/image/img/A01X/G101/ENG/GCM1555C1H1R5JA16-01.pdf?src-supplier=Digi-Key; ComponentLink1Description: http://search.murata.co.jp/Ceramy/image/img/A01X/G101/ENG/GCM1555C1H1R5JA16-01.pdf?src-supplier=Digi-Key
footprint CAP_0402_1mm (1.00x0.5)
pins: 1, 2

## GRM21BR60J107ME15K
designator C?, comment CAP CER 100UF 6.3V X5R 0805
CAP CERAMIC 100UF 6.3V X5R 20% P; Manufacturer: Murata; Manufacturer Part Number: GRM21BR60J107ME15K; Supplier 1: Newark; RoHS: Yes; Category: Ceramic Capacitors; Stock 1: 5268; Pricing 1: 10=0.78800, 25=0.75300, 50=0.71700, 100=0.68200 (USD); Voltage Rating (DC): 6.3V; Dielectric: X5R; Tolerance: 20%; Value: 100uF; Length: 2mm; Width: 1.25mm; Thickness: 1.25mm; Lead Free: Lead Free; RoHS Compliant: Yes; ComponentLink1URL: https://search.murata.co.jp/Ceramy/image/img/A01X/G101/ENG/GRM21BR60J107ME15-01A.pdf?src-supplier=Digi-Key; ComponentLink1Description: https://search.murata.co.jp/Ceramy/image/img/A01X/G101/ENG/GRM21BR60J107ME15-01A.pdf?src-supplier=Digi-Key
footprint CAPC2012X145N
pins: 1, 2

## GRM21BR61E106KA73K
designator C?, comment 10 uF 25V
0805 25 V 10 uF ±20% Tolerance X5R Monolithic Ceramic Chip Capacitor; Manufacturer: Murata; Manufacturer Part Number: GRM21BR61E106KA73K; Value: 10uF; Tolerance: 10%; Supplier 1: Newark; RoHS: Yes; Category: Ceramic Capacitors; Stock 1: 7277; Pricing 1: 1=0.21000, 10=0.08700, 25=0.08200, 50=0.07800, 100=0.07300 (USD); Mounting Technology: Surface Mount; Case/Package: 0805; Weight: 0.000335oz; Min Operating Temperature: -55°C; Max Operating Temperature: 85°C; Packaging: Tape and Reel; Voltage Rating: 25V; Package Quantity: 10000; Dielectric: X5R; Voltage Rating (DC): 25V; Length: 0.079inch; Width: 0.049inch; Thickness: 0.055inch; RoHS Compliant: Yes; ComponentLink1URL: http://www.mouser.com/ds/2/281/c02e-2905.pdf?src-supplier=Mouser; ComponentLink1Description: http://www.mouser.com/ds/2/281/c02e-2905.pdf?src-supplier=Mouser; ComponentLink2URL: http://search.murata.co.jp/Ceramy/image/img/A01X/G101/ENG/GRM21BR61E106KA73-01.pdf?src-supplier=Digi-Key; ComponentLink2Description: http://search.murata.co.jp/Ceramy/image/img/A01X/G101/ENG/GRM21BR61E106KA73-01.pdf?src-supplier=Digi-Key; ComponentLink3URL: https://search.murata.co.jp/Ceramy/image/img/A01X/G101/ENG/GRM21BR61E106KA73-01.pdf?src-supplier=Digi-Key; ComponentLink3Description: https://search.murata.co.jp/Ceramy/image/img/A01X/G101/ENG/GRM21BR61E106KA73-01.pdf?src-supplier=Digi-Key
footprint GRM21BR61E106KA73K (CAP CER 10UF 25V X5R 0805)
pins: 1, 2

## GRM188R61A226ME15D
designator C?, comment 22uF 10V X5R 0603
CAP CER 22UF 10V X5R 0603; Manufacturer: Murata; Manufacturer Part Number: GRM188R61A226ME15D; Voltage Rating DC: 10 VDC; Tolerance: 20 %; Brand: Murata Electronics; Type: Voltage and Temperature Derating Recommended Product; Unit Weight: 0.000222 oz; Supplier 1: Digi-Key; Supplier Part Number 1: 490-10476-1-ND; Stock 1: 849458; Pricing 1: 1=0.33, 10=0.226, 50=0.1506, 100=0.1279, 500=0.0903, 1000=0.079 (USD); Product Category: Multilayer Ceramic Capacitors MLCC - SMD/SMT; RoHS: True; Capacitance: 22 uF; Dielectric: X5R; Case Code - in: 0603; Case Code - mm: 1608; Height: 0.8 mm; Maximum Operating Temperature: + 85 C; Minimum Operating Temperature: - 55 C; Product: General Type MLCCs; Series: GRM; Packaging: Reel; Length: 1.6 mm; Package / Case: 0603 (1608 metric); Factory Pack Quantity: 4000; Termination Style: SMD/SMT; Width: 0.8 mm; ComponentLink1URL: http://www.farnell.com/datasheets/2047978.pdf?src-supplier=Element14; ComponentLink1Description: http://www.farnell.com/datasheets/2047978.pdf?src-supplier=Element14
footprint CAP_0603_1MM (Chip Capacitor, 2-Leads, Body 1.60x0.80mm, IPC Medium Density)
pins: 1, 2

## GRM188R71E224KA88J
designator C?, comment CAP CER 0.22UF 25V X7R 0603
Cap Ceramic 0.22uF 25V X7R 10% SMD 0603 125°C Paper T/R; Manufacturer: Murata; Manufacturer Part Number: GRM188R71E224KA88J; Value: 220nF; Supplier 1: Arrow Electronics; RoHS: Yes; Category: Ceramic Capacitors; Stock 1: 5819; Pricing 1: 1=0.09560, 10=0.07030, 25=0.06920, 100=0.03190, 250=0.03160, 500=0.02230, 1000=0.02020, 3000=0.01810 (USD); Mounting Technology: Surface Mount; Case/Package: 0603; Case Code (Imperial): 0603; Case Code (Metric): 1608; Min Operating Temperature: -55°C; Max Operating Temperature: 125°C; Tolerance: 10%; Packaging: Tape and Reel; Voltage Rating: 25V; Voltage Rating (DC): 25V; Package Quantity: 10000; Dielectric: X7R; Termination: SMD/SMT; Series: GRM; Construction: Flat; Length: 1.6mm; Width: 0.031inch; Height: 0.8mm; Thickness: 0.035inch; Depth: 0.8mm; Radiation Hardening: No; RoHS Compliant: Yes; ComponentLink1URL: https://datasheet.ciiva.com/167/grm188r71e224ka88-01-167083.pdf?src-supplier=Digi-Key; ComponentLink1Description: https://datasheet.ciiva.com/167/grm188r71e224ka88-01-167083.pdf?src-supplier=Digi-Key; ComponentLink2URL: https://datasheet.ciiva.com/11619/product-11619207.pdf?src-supplier=Avnet; ComponentLink2Description: https://datasheet.ciiva.com/11619/product-11619207.pdf?src-supplier=Avnet
footprint Chip2Pin_1.6x0.8x0.9_CAP (10 pF ±5% 50V Ceramic Capacitor C0G, NP0 0603 (1608 Metric))
pins: 1, 2